# Altium footprint library d203.PcbLib: 102 footprints (part 4 of 7)
Each footprint in its own frame and in the unit in brackets; x right, y up, seen from the top. Pads: shape width x height; smd on the part's side, far side on the other; paste and mask are expansions set on the pad; w line width, h text height; cw(c..) or ccw(c..) is an arc to the next point about the centre after c.
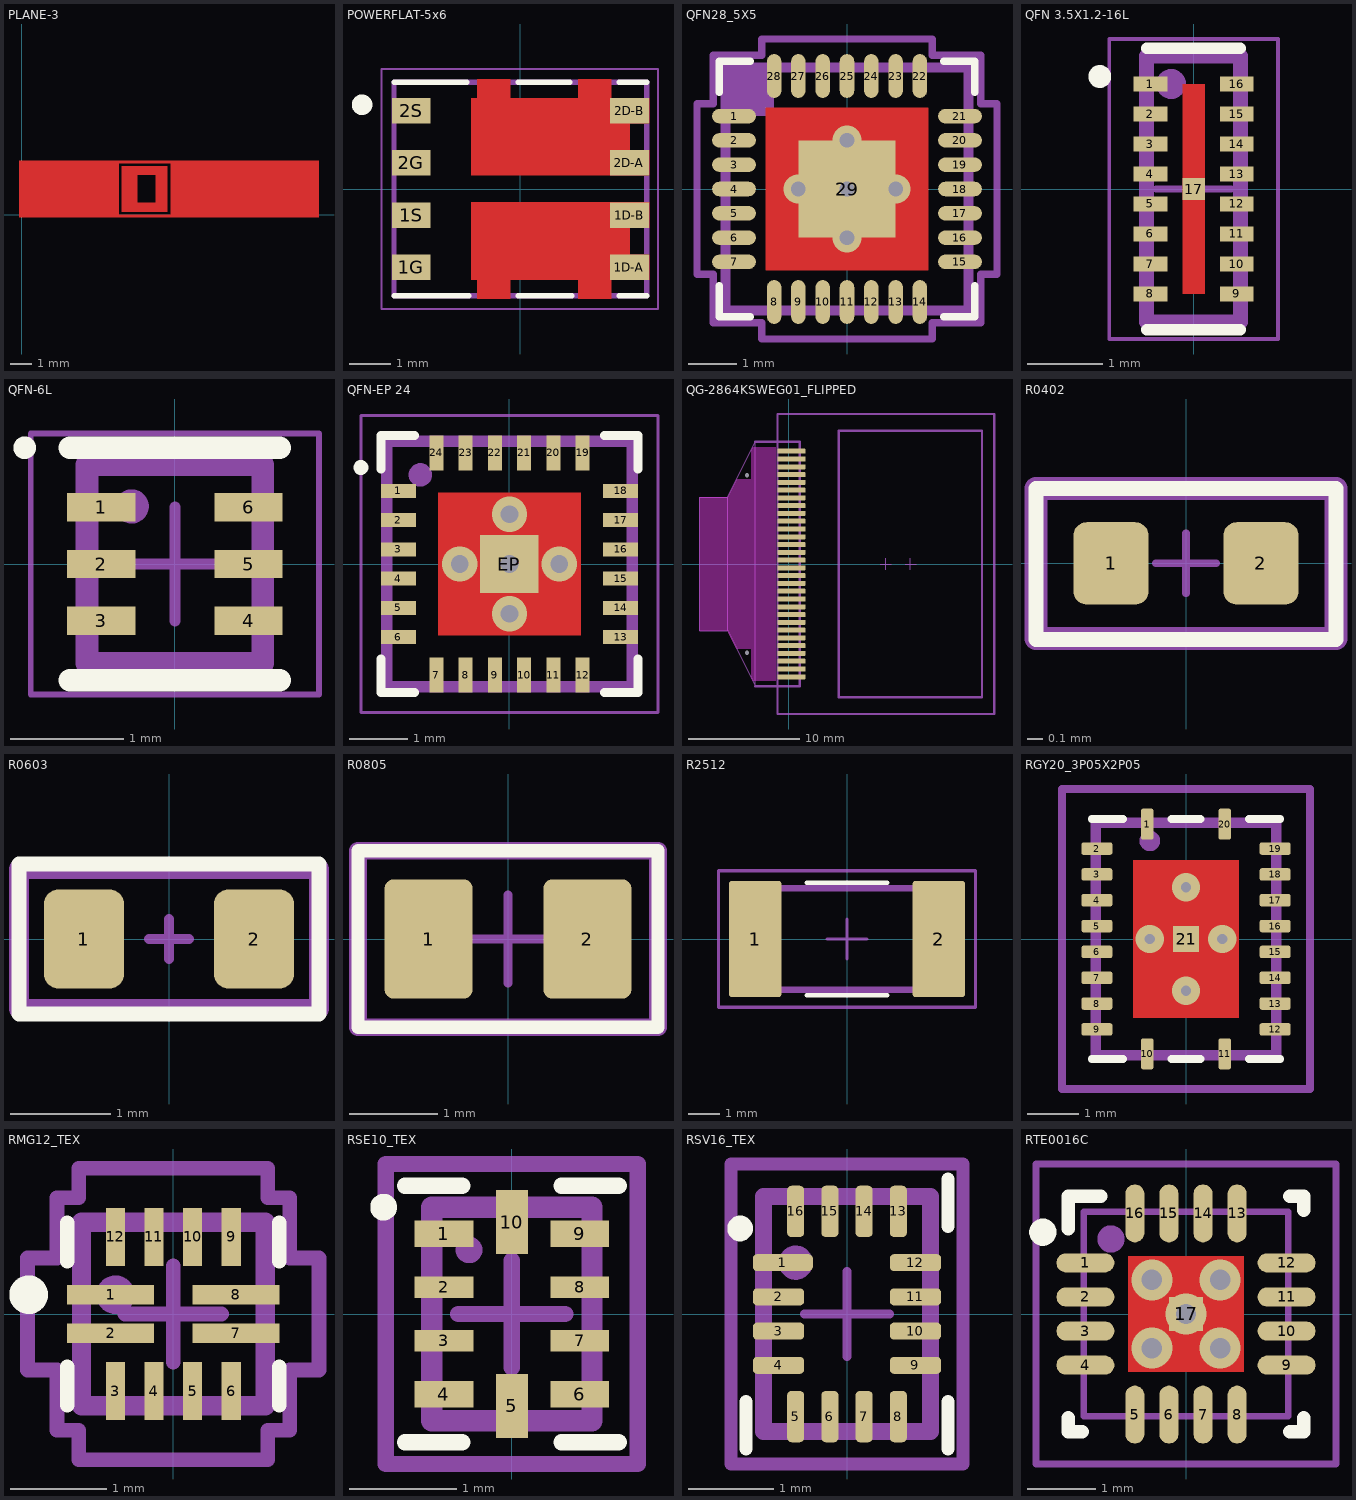
[diagram p3: the footprints below, top view; thin cyan lines are the x and y axes]

## PLANE-3 [mm]
Top Layer:
  rectangle: 4.375,-0.125 4.5,2.5
  rectangle: 2.125,-0.125 2.25,2.5
  region: 7,2.375 7,2.5 4.375,2.5 4.375,2.375
  rectangle: 4.625,0.125 5.356,2.25
  region: 6.75,1.83 6.75,2.25 4.625,2.25 4.625,1.83
  region: 6.75,2.25 6.189,2.25 6.189,0.125 6.75,0.125
  region: 4.625,0.552 4.625,0.125 6.75,0.125 6.75,0.552
  region: 7,-0.125 7,0 4.375,0 4.375,-0.125
  rectangle: -0.125,-0.125 4.399,2.5
  region: 7,2.375 7,2.5 4.375,2.5 4.375,2.375
  rectangle: 4.625,0.125 5.356,2.25
  region: 6.75,1.83 6.75,2.25 4.625,2.25 4.625,1.83
  region: 6.75,2.25 6.189,2.25 6.189,0.125 6.75,0.125
  region: 4.625,0.552 4.625,0.125 6.75,0.125 6.75,0.552
  region: 7,-0.125 7,0 4.375,0 4.375,-0.125
  rectangle: 6.875,-0.125 13.75,2.5
  text "3" at 5.353,0.552 h2
  text "3" at 5.353,0.552 h2
Top Solder:
  rectangle: 4.5,0 6.875,2.375
  rectangle: 4.5,0 6.875,2.375
Bottom Solder:
  rectangle: 4.5,0 6.875,2.375
  rectangle: 4.5,0 6.875,2.375

## POWERFLAT-5x6 [mm]
pads (8):
  rect 0.94x0.62 smd: 1D-A(2.655,-1.905) 1D-B(2.655,-0.635) 1G(-2.655,-1.905) 1S(-2.655,-0.635) 2D-A(2.655,0.635) 2D-B(2.655,1.905) 2G(-2.655,0.635) 2S(-2.655,1.905)
Top Layer:
  region: 2.207,2.205 3.132,2.205 3.132,1.6 2.667,1.6 2.667,0.94 3.132,0.94 3.132,0.33 -0.243,0.33 -1.193,0.33 -1.193,2.205 -1.043,2.205 -1.043,2.675 -0.243,2.675 -0.243,2.205 1.407,2.205 1.407,2.675 2.207,2.675
  region: 2.207,-2.202 3.132,-2.202 3.132,-1.597 2.667,-1.597 2.667,-0.937 3.132,-0.937 3.132,-0.327 -0.243,-0.327 -1.193,-0.327 -1.193,-2.202 -1.043,-2.202 -1.043,-2.672 -0.243,-2.672 -0.243,-2.202 1.407,-2.202 1.407,-2.672 2.207,-2.672
Top Overlay:
  circle w0.3: c-3.85,2.05 r0.1
  lines w0.127: -3.075,-2.6 -1.25,-2.6 ; -3.075,2.6 -1.3,2.6 ; -0.05,-2.6 1.25,-2.6 ; -0.05,2.6 1.2,2.6 ; 2.4,-2.6 3.075,-2.6 ; 2.4,2.6 3.075,2.6
Top Paste:
  region: 2.059,-0.635 2.059,-2.02 -1.043,-2.02 -1.043,-0.635
  region: 2.059,2.032 2.059,0.647 -1.043,0.647 -1.043,2.032
Top Solder:
  region: 2.75,0.223 -1.302,0.223 -1.302,2.3 2.75,2.3
  region: -0.2,2.253 -1.101,2.253 -1.101,2.75 -0.2,2.75
  region: 2.25,2.251 1.35,2.251 1.35,2.75 2.25,2.75
  region: -0.2,-2.752 -1.101,-2.752 -1.101,-2.25 -0.2,-2.25
  region: 2.25,-2.752 1.351,-2.752 1.351,-2.25 2.25,-2.25
  region: 2.711,-2.296 -1.34,-2.296 -1.34,-0.219 2.711,-0.219
Mechanical 13:
  circle w0.3: c-2.55,1.95 r0.1
  lines w0.127: -3.075,-2.6 3.075,-2.6 3.075,2.6 -3.075,2.6 -3.075,-2.6
Mechanical 15:
  lines w0.05: -3.375,-2.925 3.35,-2.925 3.35,2.925 -3.375,2.925 -3.375,-2.925
3D body "STL36DN6F7.STEP": height 1, standoff 0, extent -3.075,-2.6 3.075,2.6

## QFN28_5X5 [mm]
pads (29):
  rrect100% 0.9x0.3 smd paste+0 mask+0.05: 1(-2.324,1.5) 2(-2.324,1) 3(-2.324,0.5) 4(-2.324,0) 5(-2.324,-0.5) 6(-2.324,-1) 7(-2.324,-1.5) 15(2.324,-1.5) 16(2.324,-1) 17(2.324,-0.5) 18(2.324,0) 19(2.324,0.5) 20(2.324,1) 21(2.324,1.5)
  rrect100% 0.3x0.9 smd paste+0 mask+0.05: 8(-1.5,-2.324) 9(-1,-2.324) 10(-0.5,-2.324) 11(0,-2.324) 12(0.5,-2.324) 13(1,-2.324) 14(1.5,-2.324) 22(1.5,2.324) 23(1,2.324) 24(0.5,2.324) 25(0,2.324) 26(-0.5,2.324) 27(-1,2.324) 28(-1.5,2.324)
  rect 2x2 smd paste-2 mask+0.05: 29(0,0)
via 0,-1 diameter 0.605 hole 0.3
via 0,1 diameter 0.605 hole 0.3
via 1,0 diameter 0.605 hole 0.3
via -1,0 diameter 0.605 hole 0.3
via 0,0 diameter 0.605 hole 0.3
Top Layer:
  rectangle: -1.675,-1.675 1.675,1.675
Top Overlay:
  lines w0.152: -2.629,-1.985 -2.629,-2.629 -1.985,-2.629 ; -2.629,1.985 -2.629,2.629 -1.985,2.629 ; 1.985,-2.629 2.629,-2.629 2.629,-1.985 ; 1.985,2.629 2.629,2.629 2.629,1.985
Top Paste:
  region: -0.1,1.525 -1.525,1.525 -1.525,0.1 -0.1,0.1
  region: -0.1,-0.1 -1.525,-0.1 -1.525,-1.525 -0.1,-1.525
  region: 1.525,1.525 0.1,1.525 0.1,0.1 1.525,0.1
  region: 1.525,-0.1 0.1,-0.1 0.1,-1.525 1.525,-1.525
Top Solder:
  rectangle: -1.725,-1.725 1.725,1.725
Mechanical 14:
  rectangle: -2.5,1.5 -1.5,2.5
  lines w0.2: -2.5,-2.5 -2.5,2.5 2.5,2.5 2.5,-2.5 -2.5,-2.5
  text "'.Designator'" at 0.127,1.27 h0.5
Mechanical 15:
  lines w0.051: -0.5,0 0.5,0 ; 0,-0.5 0,0.5
  lines w0.152: -3.086,-1.75 -2.756,-1.75 -2.756,-2.756 -1.75,-2.756 -1.75,-3.086 1.75,-3.086 1.75,-2.756 2.756,-2.756 2.756,-1.75 3.086,-1.75 3.086,1.75 2.756,1.75 2.756,2.756 1.75,2.756 1.75,3.086 -1.75,3.086 -1.75,2.756 -2.756,2.756 -2.756,1.75 -3.086,1.75 -3.086,-1.75
3D body "QFN28_5X5.stp": height 0.94, standoff 0, extent -2.553,-2.553 2.553,2.553

## QFN 3.5X1.2-16L [mm]
pads (17):
  rect 0.45x0.2 smd mask+0.05: 1(-0.575,1.4) 2(-0.575,1) 3(-0.575,0.6) 4(-0.575,0.2) 5(-0.575,-0.2) 6(-0.575,-0.6) 7(-0.575,-1) 8(-0.575,-1.4) 9(0.575,-1.4) 10(0.575,-1) 11(0.575,-0.6) 12(0.575,-0.2) 13(0.575,0.2) 14(0.575,0.6) 15(0.575,1) 16(0.575,1.4)
  rect 0.3x0.3 smd mask+0.05: 17(0,0)
Top Layer:
  rectangle: -0.15,-1.4 0.15,1.4
Top Overlay:
  circle w0.152: c-1.25,1.5 r0.076
  lines w0.152: -0.625,-1.875 0.625,-1.875 ; -0.625,1.875 0.625,1.875
Top Paste:
  rectangle: -0.15,-1.4 0.15,1.4
Top Solder:
  rectangle: -0.2,-1.45 0.2,1.45
Mechanical 14:
  circle w0.2: c-0.3,1.4 r0.1
  lines w0.2: -0.625,-1.775 0.625,-1.775 0.625,1.775 -0.625,1.775 -0.625,-1.775
  text "'.Designator'" at -0.254,1.016 h0.5
Mechanical 15:
  lines w0.051: -1.125,-2 -1.125,2 1.125,2 1.125,-2 -1.125,-2
  lines w0.1: -0.5,0 0.5,0 ; 0,-0.5 0,0.5
3D body "SON40P120X55_HS-17N.step": height 0.55, standoff 0.05, extent -0.625,-1.775 0.625,1.775

## QFN-6L [mm]
pads (6):
  rect 0.6x0.25 smd: 1(-0.65,0.5) 2(-0.65,0) 3(-0.65,-0.5) 4(0.65,-0.5) 5(0.65,0) 6(0.65,0.5)
Top Overlay:
  circle w0.1: c-1.325,1.025 r0.05
  lines w0.2: -0.925,-1.025 0.925,-1.025 ; -0.925,1.025 0.925,1.025
Mechanical 14:
  circle w0.2: c-0.381,0.508 r0.05
  lines w0.2: -0.775,-0.875 -0.775,0.875 0.775,0.875 0.775,-0.875 -0.775,-0.875
  text "'.Designator'" at -0.254,0.508 h0.5
Mechanical 15:
  lines w0.05: -1.27,-1.15 -1.27,1.15 1.27,1.15 1.27,-1.15 -1.27,-1.15
  lines w0.1: -0.5,0 0.5,0 ; 0,-0.5 0,0.5
3D body "SON50P150X55-6N.step": height 0.55, standoff 0.05, extent -0.775,-0.875 0.775,0.875

## QFN-EP 24 [mm]
pads (25):
  rect 0.6x0.24 smd: 1(-1.9,1.25) 2(-1.9,0.75) 3(-1.9,0.25) 4(-1.9,-0.25) 5(-1.9,-0.75) 6(-1.9,-1.25) 13(1.9,-1.25) 14(1.9,-0.75) 15(1.9,-0.25) 16(1.9,0.25) 17(1.9,0.75) 18(1.9,1.25)
  rect 0.24x0.6 smd: 7(-1.25,-1.9) 8(-0.75,-1.9) 9(-0.25,-1.9) 10(0.25,-1.9) 11(0.75,-1.9) 12(1.25,-1.9) 19(1.25,1.9) 20(0.75,1.9) 21(0.25,1.9) 22(-0.25,1.9) 23(-0.75,1.9) 24(-1.25,1.9)
  rect 1x1 smd paste-10: EP(0,0)
via 0.85,0 diameter 0.605 hole 0.3
via -0.85,0 diameter 0.605 hole 0.3
via 0,-0.85 diameter 0.605 hole 0.3
via 0,0.85 diameter 0.605 hole 0.3
via 0,0 diameter 0.605 hole 0.3
Top Layer:
  rectangle: -1.225,-1.225 1.225,1.225
Top Overlay:
  circle w0.152: c-2.54,1.651 r0.051
  lines w0.152: -2.2,-1.625 -2.2,-2.2 -1.625,-2.2 ; -2.2,1.625 -2.2,2.2 -1.625,2.2 ; 1.625,-2.2 2.2,-2.2 2.2,-1.625 ; 1.625,2.2 2.2,2.2 2.2,1.625
Top Paste:
  rectangle: 0.1,-1 1,-0.1
  rectangle: -1,-1 -0.1,-0.1
  rectangle: -1,0.1 -0.1,1
  rectangle: 0.1,0.1 1,1
Top Solder:
  rectangle: -1.325,-1.325 1.325,1.325
Mechanical 14:
  circle w0.2: c-1.524,1.524 r0.1
  lines w0.2: -2.1,-2.1 -2.1,2.1 2.1,2.1 2.1,-2.1 -2.1,-2.1
  text "'.Designator'" at -0.762,-0.254 h0.5
Mechanical 15:
  lines w0.05: -0.5,0 0.5,0 ; 0,-0.5 0,0.5 ; -2.54,-2.54 2.54,-2.54 2.54,2.54 -2.54,2.54 -2.54,-2.54
3D body "WQFN-24.STEP": height 0.8, standoff 0, extent -2.075,-2.075 2.075,2.075

## QG-2864KSWEG01_FLIPPED [mm]
pads (32):
  round 0.3 hole 0.4 unplated mask+0: 0(-3.75,-8) 0(-3.75,8)
  rrect20% 2.5x0.45 smd mask+0.05: 1(0.25,10.15) 2(0.25,9.45) 3(0.25,8.75) 4(0.25,8.05) 5(0.25,7.35) 6(0.25,6.65) 7(0.25,5.95) 8(0.25,5.25) 9(0.25,4.55) 10(0.25,3.85) 11(0.25,3.15) 12(0.25,2.45) 13(0.25,1.75) 14(0.25,1.05) 15(0.25,0.35) 16(0.25,-0.35) 17(0.25,-1.05) 18(0.25,-1.75) 19(0.25,-2.45) 20(0.25,-3.15) 21(0.25,-3.85) 22(0.25,-4.55) 23(0.25,-5.25) 24(0.25,-5.95) 25(0.25,-6.65) 26(0.25,-7.35) 27(0.25,-8.05) 28(0.25,-8.75) 29(0.25,-9.45) 30(0.25,-10.15)
Top Layer keep-out:
  region: -8,6 -5.5,6 -4.675,7.62 -3.378,7.62 -3.378,10.211 -3.25,10.5 -2,10.5 -2,-10.5 -3.25,-10.5 -3.378,-10.216 -3.378,-7.62 -4.699,-7.62 -5.5,-6 -8,-6
  region: -2,10.5 -1.168,10.5 -1.168,-10.5 -2,-10.5
Mechanical 14:
  lines w0.1: 8.25,0 9.25,0 ; 8.75,-0.5 8.75,0.5 ; 10.5,0 11.5,0 ; 10.95,-0.5 10.95,0.5 ; -5.5,-6 -5.5,6 ; -5.5,-6 -3,-11 -3,11 -5.5,6 ; -5.5,-6 -8,-6 -8,6 -5.5,6
  lines w0.2: -3,-11 1,-11 1,11 -3,11 ; -1,-13.5 18.5,-13.5 18.5,13.5 -1,13.5 -1,-13.5 ; 4.5,-12 4.5,12 17.4,12 17.4,-12 4.5,-12
  text "'.Designator'" at -0.127,1.98 h0.5
  text "1" at -0.508,10.362 h1.02
  text "30" at -0.635,-8.815 h1.02
3D body: height 7.47, standoff 7.4, extent 4.5,-12 17.4,12
3D body: height 7.4, standoff 6, extent -1,-13.5 18.5,13.5

## R0402 [mm]
pads (2):
  rrect35% 0.5x0.55 smd: 1(-0.5,0) 2(0.5,0)
Top Overlay:
  lines w0.1: -1,-0.508 1,-0.508 1,0.5 -1,0.5 -1,-0.508
Mechanical 14:
  lines w0.152: -1,-0.5 -1,0.5 1,0.5 1,-0.5 -1,-0.5
  text ".Designator" at -0.8,-0.2 h0.5
Mechanical 15:
  lines w0.05: -1,-0.5 1,-0.5 1,0.5 -1,0.5 -1,-0.5
  lines w0.051: -0.2,0 0.2,0 ; 0,-0.2 0,0.2
3D body "RC0402N.step": height 0.71, standoff 0, extent -0.533,-0.254 0.533,0.254

## R0603 [mm]
pads (2):
  rrect35% 0.8x0.991 smd: 1(-0.85,0) 2(0.85,0)
Top Overlay:
  lines w0.152: -1.5,-0.75 1.5,-0.75 1.5,0.75 -1.5,0.75 -1.5,-0.75
Mechanical 14:
  lines w0.2: -1.5,-0.7 -1.5,0.7 1.5,0.7 1.5,-0.7 -1.5,-0.7
  text ".Designator" at -1.3,-0.2 h0.5
Mechanical 15:
  lines w0.1: -0.2,0 0.2,0 ; 0,-0.2 0,0.2 ; -1.5,-0.75 1.5,-0.75 1.5,0.75 -1.5,0.75 -1.5,-0.75
3D body "RC0603N.step": height 0.71, standoff 0, extent -0.8,-0.406 0.8,0.406

## R0805 [mm]
pads (2):
  rrect20% 1x1.35 smd: 1(-0.9,0) 2(0.9,0)
Top Overlay:
  lines w0.152: -1.7,-1 -1.7,1 1.7,1 1.7,-1 -1.7,-1
Mechanical 14:
  lines w0.2: -1.7,-1 1.7,-1 1.7,1 -1.7,1 -1.7,-1
  text ".Designator" at -1,-0.2 h0.5
Mechanical 15:
  lines w0.1: -0.5,0 0.5,0 ; 0,-0.5 0,0.5 ; -1.65,-0.95 1.65,-0.95 1.65,0.95 -1.65,0.95 -1.65,-0.95
3D body "RESC2012X06N.step": height 0.6, standoff 0, extent -1.05,-0.675 1.05,0.675

## R2512 [mm]
pads (2):
  rrect10% 1.65x3.68 smd: 1(-2.9,0) 2(2.9,0)
Top Overlay:
  lines w0.152: -1.27,-1.778 1.27,-1.778 ; -1.27,1.778 1.27,1.778
Mechanical 14:
  lines w0.2: -3.15,-1.6 3.15,-1.6 3.15,1.6 -3.15,1.6 -3.15,-1.6
  text "'.Designator'" at 1.016,0.127 h0.5
Mechanical 15:
  lines w0.1: -0.635,0 0.635,0 ; 0,-0.635 0,0.635 ; -4.064,-2.159 -4.064,2.159 4.064,2.159 4.064,-2.159 -4.064,-2.159
3D body "RC2512N.step": height 0.71, standoff 0, extent -3.15,-1.6 3.15,1.6

## RGY20_3P05X2P05 [mm]
pads (21):
  rrect35% 0.24x0.6 smd mask+0.07: 1(-0.75,2.225) 10(-0.75,-2.225) 11(0.75,-2.225) 20(0.75,2.225)
  rrect35% 0.6x0.24 smd mask+0.07: 2(-1.725,1.75) 3(-1.725,1.25) 4(-1.725,0.75) 5(-1.725,0.25) 6(-1.725,-0.25) 7(-1.725,-0.75) 8(-1.725,-1.25) 9(-1.725,-1.75) 12(1.725,-1.75) 13(1.725,-1.25) 14(1.725,-0.75) 15(1.725,-0.25) 16(1.725,0.25) 17(1.725,0.75) 18(1.725,1.25) 19(1.725,1.75)
  rect 0.5x0.5 smd paste-1.512 mask+0.05: 21(0,0)
via 0,1 diameter 0.55 hole 0.2
via 0.7,0 diameter 0.55 hole 0.2
via 0,-1 diameter 0.55 hole 0.2
via -0.7,0 diameter 0.55 hole 0.2
Top Layer:
  rectangle: -1.025,-1.525 1.025,1.525
  region: 0,-1.525
  region: 0,1.525
Top Overlay:
  lines w0.152: -1.825,-2.325 -1.223,-2.325 ; -1.825,2.325 -1.223,2.325 ; -0.277,-2.325 0.277,-2.325 ; -0.277,2.325 0.277,2.325 ; 1.223,-2.325 1.825,-2.325 ; 1.223,2.325 1.825,2.325
  text "." at -1.27,2.667 h0.5
Top Paste:
  region: 1,1.5 0.1,1.5 0.1,0.2 1,0.2
  rectangle: -1,-1.5 -0.1,-0.2
  region: 1,-0.2 0.1,-0.2 0.1,-1.5 1,-1.5
  rectangle: -1,0.2 -0.1,1.5
Top Solder:
  rectangle: -1.075,-1.575 1.075,1.575
Mechanical 14:
  circle w0.2: c-0.7,1.9 r0.1
  lines w0.2: -1.75,-2.25 -1.75,2.25 1.75,2.25 1.75,-2.25 -1.75,-2.25
  text "'.Designator'" at 0,-1.016 h0.5
Mechanical 15:
  lines w0.1: -0.5,0 0.5,0 ; 0,-0.5 0,0.5
  lines w0.152: -2.404,-2.904 2.404,-2.904 2.404,2.904 -2.404,2.904 -2.404,-2.904
3D body "RGY0020A.stp": height 1, standoff 0, extent -1.75,-2.25 1.75,2.25

## RMG12_TEX [mm]
pads (12):
  rect 0.9x0.2 smd mask+0.05: 1(-0.65,0.2) 2(-0.65,-0.2) 7(0.65,-0.2) 8(0.65,0.2)
  rect 0.2x0.6 smd mask+0.05: 3(-0.6,-0.8) 4(-0.2,-0.8) 5(0.2,-0.8) 6(0.6,-0.8) 9(0.6,0.8) 10(0.2,0.8) 11(-0.2,0.8) 12(-0.6,0.8)
Top Overlay:
  circle w0.2: c-1.5,0.2 r0.1
  lines w0.152: -1.1,-0.945 -1.1,-0.55 ; -1.1,0.55 -1.1,0.945 ; 1.1,-0.945 1.1,-0.55 ; 1.1,0.55 1.1,0.945
Mechanical 14:
  circle w0.2: c-0.6,0.2 r0.1
  lines w0.2: -0.953,-0.953 -0.953,0.953 0.953,0.953 0.953,-0.953 -0.953,-0.953
  text "'.Designator'" at 0.737,-0.076 h0.5
Mechanical 15:
  lines w0.152: -0.5,0 0.5,0 ; 0,-0.5 0,0.5 ; -1.511,-0.581 -1.511,0.581 -1.206,0.581 -1.206,1.206 -0.981,1.206 -0.981,1.511 0.981,1.511 0.981,1.206 1.206,1.206 1.206,0.581 1.511,0.581 1.511,-0.581 1.206,-0.581 1.206,-1.206 0.981,-1.206 0.981,-1.511 -0.981,-1.511 -0.981,-1.206 -1.206,-1.206 -1.206,-0.581 -1.511,-0.581
3D body "RMG12_TEX.step": height 0.81, standoff 0, extent -0.952,-0.952 0.952,0.952

## RSE10_TEX [mm]
pads (10):
  rect 0.55x0.25 smd paste-0.15 mask+0.05: 1(-0.635,0.75) 4(-0.635,-0.75) 6(0.635,-0.75) 9(0.635,0.75)
  rect 0.55x0.2 smd mask+0.05: 2(-0.635,0.25) 3(-0.635,-0.25) 7(0.635,-0.25) 8(0.635,0.25)
  rect 0.3x0.6 smd mask+0.05: 5(0,-0.86) 10(0,0.86)
Top Overlay:
  circle w0.15: c-1.2,1 r0.05
  lines w0.152: -1,-1.2 -0.465,-1.2 ; -1,1.2 -0.465,1.2 ; 0.465,-1.2 1,-1.2 ; 0.465,1.2 1,1.2
Mechanical 14:
  circle w0.15: c-0.4,0.6 r0.05
  lines w0.2: -0.75,-1 0.75,-1 0.75,1 -0.75,1 -0.75,-1
  text "'.Designator'" at 0.254,-0.762 h0.5
Mechanical 15:
  lines w0.152: -0.5,0 0.5,0 ; 0,-0.5 0,0.5 ; -1.179,-1.404 -1.179,1.404 1.179,1.404 1.179,-1.404 -1.179,-1.404
3D body "RSE0010A.stp": height 0.6, standoff 0, extent -0.75,-1 0.75,1

## RSV16_TEX [mm]
pads (16):
  rrect50% 0.7x0.2 smd paste+0 mask+0.05: 1(-0.75,0.6)
  rrect50% 0.6x0.2 smd paste+0 mask+0.05: 2(-0.8,0.2) 3(-0.8,-0.2) 4(-0.8,-0.6) 9(0.8,-0.6) 10(0.8,-0.2) 11(0.8,0.2) 12(0.8,0.6)
  rrect50% 0.2x0.6 smd paste+0 mask+0.05: 5(-0.6,-1.2) 6(-0.2,-1.2) 7(0.2,-1.2) 8(0.6,-1.2) 13(0.6,1.2) 14(0.2,1.2) 15(-0.2,1.2) 16(-0.6,1.2)
Top Overlay:
  circle w0.2: c-1.25,1 r0.05
  lines w0.152: -1.179,-1.579 -1.179,-1.026 ; 1.179,-1.579 1.179,-1.026 ; 1.179,1.026 1.179,1.579
Mechanical 14:
  circle w0.2: c-0.6,0.6 r0.1
  lines w0.2: -0.975,-1.375 -0.975,1.375 0.975,1.375 0.975,-1.375 -0.975,-1.375
  text "'.Designator'" at 0.254,-0.838 h0.5
Mechanical 15:
  lines w0.1: -0.5,0 0.5,0 ; 0,-0.5 0,0.5
  lines w0.152: -1.354,-1.754 1.354,-1.754 1.354,1.754 -1.354,1.754 -1.354,-1.754
3D body "RSV0016A.step": height 0.55, standoff 0, extent -0.975,-1.375 0.975,1.375

## RTE0016C [mm]
pads (17):
  rrect100% 0.85x0.28 smd paste-0.025 mask+0.05: 1(-1.475,0.75) 2(-1.475,0.25) 3(-1.475,-0.25) 4(-1.475,-0.75) 9(1.475,-0.75) 10(1.475,-0.25) 11(1.475,0.25) 12(1.475,0.75)
  rrect100% 0.28x0.85 smd paste-0.025 mask+0.05: 5(-0.75,-1.475) 6(-0.25,-1.475) 7(0.25,-1.475) 8(0.75,-1.475) 13(0.75,1.475) 14(0.25,1.475) 15(-0.25,1.475) 16(-0.75,1.475)
  rect 0.5x0.5 smd paste-2 mask+0.05: 17(0,0)
via 0,0 diameter 0.605 hole 0.3
via -0.5,0.5 diameter 0.605 hole 0.3
via 0.5,0.5 diameter 0.605 hole 0.3
via -0.5,-0.5 diameter 0.605 hole 0.3
via 0.5,-0.5 diameter 0.605 hole 0.3
Top Layer:
  rectangle: -0.85,-0.85 0.85,0.85
Top Overlay:
  circle w0.2: c-2.1,1.2 r0.1
  lines w0.2: -1.725,-1.525 -1.725,-1.725 -1.525,-1.725 ; -1.725,1.25 -1.725,1.725 -1.25,1.725 ; 1.525,-1.725 1.725,-1.725 1.725,-1.525 ; 1.525,1.725 1.725,1.725 1.725,1.525
Top Paste:
  rectangle: -0.8,0.1 -0.1,0.8
  region: -0.1,-0.8 -0.1,-0.1 -0.8,-0.1 -0.8,-0.8
  region: 0.8,-0.1 0.1,-0.1 0.1,-0.8 0.8,-0.8
  region: 0.1,0.8 0.1,0.1 0.8,0.1 0.8,0.8
Top Solder:
  rectangle: -0.9,-0.9 0.9,0.9
Mechanical 14:
  circle w0.2: c-1.1,1.1 r0.1
  lines w0.1: -1.5,-1.5 -1.5,1.5 1.5,1.5 1.5,-1.5 -1.5,-1.5
  text "'.Designator'" at 0.635,0.254 h0.5
Mechanical 15:
  lines w0.1: -0.381,0 0.381,0 ; 0,-0.381 0,0.381 ; -2.2,-2.2 2.2,-2.2 2.2,2.2 -2.2,2.2 -2.2,-2.2
3D body "RTE0016C.stp": height 0.8, standoff 0, extent -1.5,-1.5 1.5,1.5